# EAGLE library part PAM8403-BOB (library mmoretti)
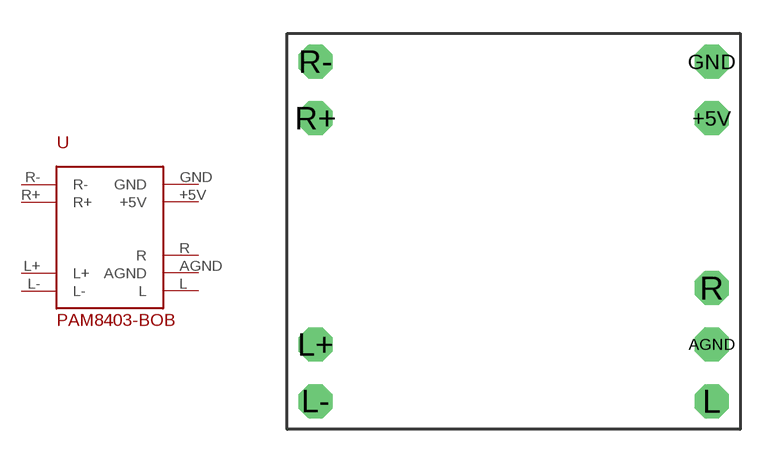
[diagram p12: symbol with the pads of PAM8403-BOB; footprint PAM8403-BOB]

Designator prefix -

## PAM8403-BOB  [PAM8403-BOB]
+5V  +5V
AGND  AGND
GND  GND
L  L
L+  L+
L-  L-
R  R
R+  R+
R-  R-

## Footprint PAM8403-BOB (pad centres in mm)
drill 1.016 octagon: +5V 8.89,5.08; AGND 8.89,-5.08; GND 8.89,7.62; L 8.89,-7.62; L+ -8.89,-5.08; L- -8.89,-7.62; R 8.89,-2.54; R+ -8.89,5.08; R- -8.89,7.62